# EAGLE library part *163 (library digital)
74xx163: Binary Counter With synchronous clear
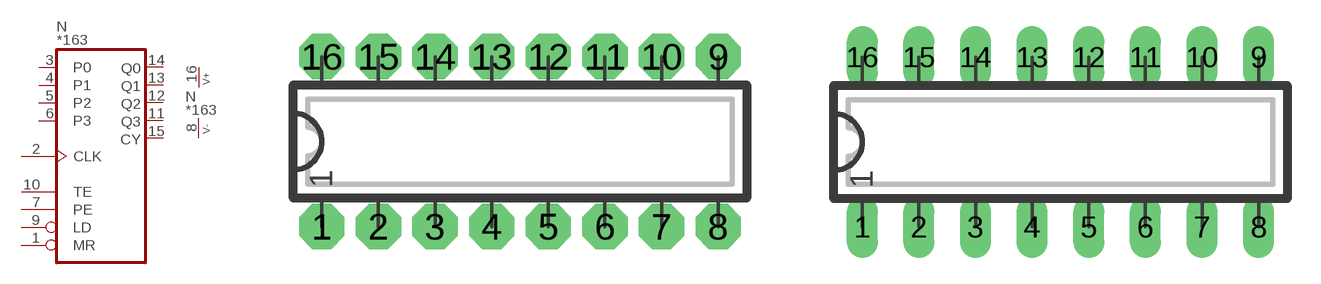
[diagram p32: symbol with the pads of DIP16N; footprints DIP16N, DIP16L]

Designator prefix N; gates  =COUNT_4 P=V+-

## 74163N, 74AC163N, 74ACT163N, 74ALS163N, 74AS163N, 74C163N, 74HC163N, 74LS163N, 74S163N  [DIP16N]
1   :MR  in
2   :CLK  in
3   :P0  in
4   :P1  in
5   :P2  in
6   :P3  in
7   :PE  in
8  P:V-  pwr
9   :LD  in
10   :TE  in
11   :Q3  out
12   :Q2  out
13   :Q1  out
14   :Q0  out
15   :CY  out
16  P:V+  pwr

## 74163, 74AC163, 74ACT163, 74ALS163, 74AS163, 74C163, 74HC163, 74LS163, 74S163  [DIP16L]
Pads as for DIP16N

## 74163L, 74AC163L, 74ACT163L, 74ALS163L, 74AS163L, 74C163L, 74HC163L, 74LS163L, 74S163L  [DIP16L]
Pads as for DIP16N

## 74163R, 74AC163R, 74ACT163R, 74ALS163R, 74AS163R, 74C163R, 74HC163R, 74LS163R, 74S163R  [DIP16R]
Pads as for DIP16N

## 74AC163S, 74ACT163S, 74HC163S, 74HCT163S  [SO16]
Pads as for DIP16N

## Footprint DIP16N (pad centres in mm)
DIP-16 Standard IC package, 16 pins
drill 0.813 pad 2.032 octagon: 1 0,0; 2 2.54,0; 3 5.08,0; 4 7.62,0; 5 10.16,0; 6 12.7,0; 7 15.24,0; 8 17.78,0; 9 17.78,7.62; 10 15.24,7.62; 11 12.7,7.62; 12 10.16,7.62; 13 7.62,7.62; 14 5.08,7.62; 15 2.54,7.62; 16 0,7.62

## Footprint DIP16L (pad centres in mm)
DIP-16, long pads Standard IC package, 16 pins
drill 0.813 pad 1.397 long: 1 0,0; 2 2.54,0; 3 5.08,0; 4 7.62,0; 5 10.16,0; 6 12.7,0; 7 15.24,0; 8 17.78,0; 9 17.78,7.62; 10 15.24,7.62; 11 12.7,7.62; 12 10.16,7.62; 13 7.62,7.62; 14 5.08,7.62; 15 2.54,7.62; 16 0,7.62

## Footprint DIP16R (pad centres in mm)
DIP-16, reduced pads Standard IC package, 16 pins
drill 0.813 pad 1.397 square: 1 0,0; 2 2.54,0; 3 5.08,0; 4 7.62,0; 5 10.16,0; 6 12.7,0; 7 15.24,0; 8 17.78,0; 9 17.78,7.62; 10 15.24,7.62; 11 12.7,7.62; 12 10.16,7.62; 13 7.62,7.62; 14 5.08,7.62; 15 2.54,7.62; 16 0,7.62

## Footprint SO16 (pad centres in mm)
SO-16, SMD SOIC IC package, 16 pins
smd 0.635 x 1.778: 1 -4.445,-2.857; 2 -3.175,-2.857; 3 -1.905,-2.857; 4 -0.635,-2.857; 5 0.635,-2.857; 6 1.905,-2.857; 7 3.175,-2.857; 8 4.445,-2.857; 9 4.445,2.857; 10 3.175,2.857; 11 1.905,2.857; 12 0.635,2.857; 13 -0.635,2.857; 14 -1.905,2.857; 15 -3.175,2.857; 16 -4.445,2.857